# EAGLE library part ESP32-WROOM-32 (library ESP32-WROOM-32)
ESP32-WROOM-32 Module
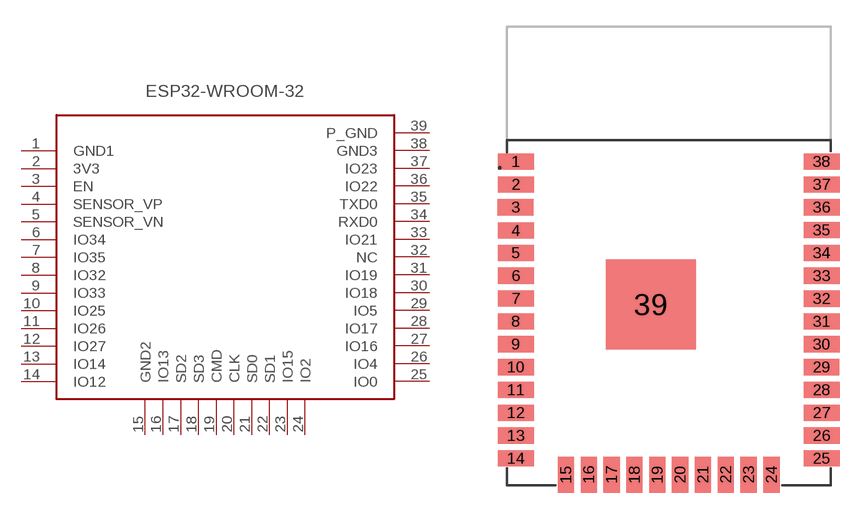
[diagram p0: symbol with the pads of ESP32-WROOM-32; footprint ESP32-WROOM-32]

Designator prefix -

## ESP32-WROOM-32 (Availability: Unavailable; Description: Bluetooth, WiFi Transceiver Module 2.4GHz ~ 2.5GHz Surface Mount; MF: Espressif Systems; MP: ESP32-WROOM-32; Package: Module Espressif Systems; Price: None)  [ESP32-WROOM-32]
1  GND1  pwr
2  3V3  pwr
3  EN
4  SENSOR_VP
5  SENSOR_VN
6  IO34
7  IO35
8  IO32
9  IO33
10  IO25
11  IO26
12  IO27
13  IO14
14  IO12
15  GND2  pwr
16  IO13
17  SD2
18  SD3
19  CMD
20  CLK
21  SD0
22  SD1
23  IO15
24  IO2
25  IO0
26  IO4
27  IO16
28  IO17
29  IO5
30  IO18
31  IO19
32  NC  nc
33  IO21
34  RXD0
35  TXD0
36  IO22
37  IO23
38  GND3  pwr
39  P_GND  pwr

## Footprint ESP32-WROOM-32 (pad centres in mm)
smd 2 x 0.9: 1 0,0; 2 0,-1.27; 3 -0.01,-2.54; 4 0,-3.84; 5 0,-5.08; 6 0,-6.35; 7 0,-7.62; 8 0,-8.89; 9 0,-10.16; 10 0,-11.43; 11 0,-12.7; 12 0,-13.97; 13 0,-15.24; 14 0,-16.51; 25 16.999,-16.511; 26 16.999,-15.239; 27 17.001,-13.971; 28 16.999,-12.702; 29 16.997,-11.432; 30 16.999,-10.161; 31 17.002,-8.891; 32 17,-7.622; 33 17,-6.35; 34 17,-5.08; 35 17,-3.81; 36 17,-2.54; 37 17,-1.27; 38 17,0
smd 0.9 x 2: 15 2.785,-17.41; 16 4.055,-17.41; 17 5.325,-17.41; 18 6.595,-17.41; 19 7.865,-17.41; 20 9.135,-17.41; 21 10.405,-17.41; 22 11.675,-17.41; 23 12.945,-17.41; 24 14.215,-17.41
smd 5 x 5: 39 7.502,-7.946